# Altium schematic symbol library LM2596S_MODULE.SchLib: 1 symbol
Pins are listed as number, name and electrical type; pins without a type are passive.

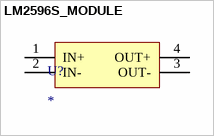
[diagram p0: symbol LM2596S_MODULE]

## LM2596S_MODULE
designator U?
pins: 1 IN+, 2 IN-, 3 OUT-, 4 OUT+